# Altium schematic symbol library ESP32_Board.SCHLIB: 23 symbols
Pins are listed as number, name and electrical type; pins without a type are passive.

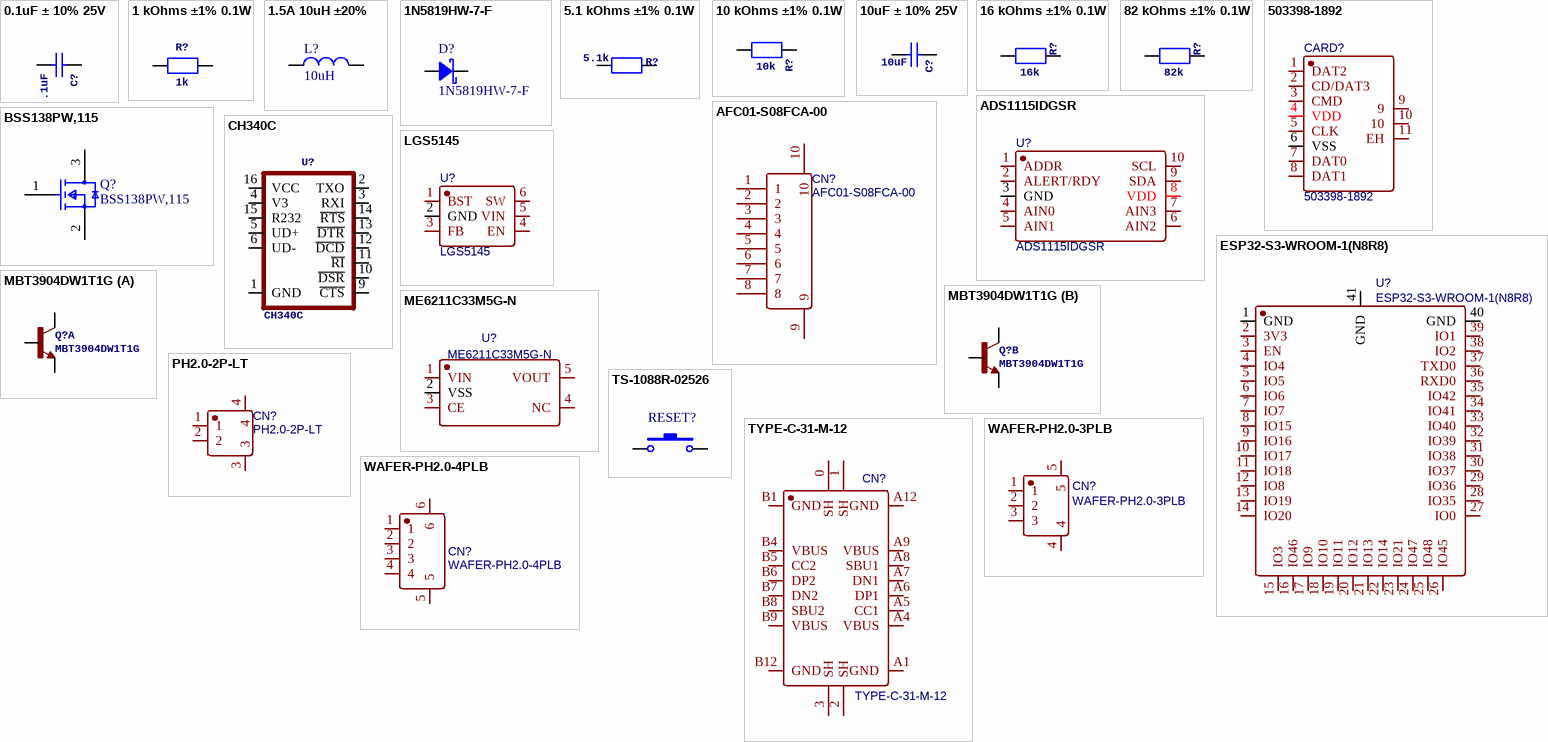
[diagram p0: symbols 0.1uF ± 10% 25V to WAFER-PH2.0-4PLB]

## 0.1uF ± 10% 25V
designator C?, comment 0.1uF
0.1uF ± 10% 25V
footprint C0603 (Footprint not found)
pins: 1, 2

## 1 kOhms ±1% 0.1W
designator R?, comment 1k
1 kOhms ±1% 0.1W
footprint R0603 (Footprint not found)
pins: 1, 2

## 1.5A 10uH ±20%
designator L?, comment 10uH
1.5A 10uH ±20% 2.4A SMD Power Inductors ROHS; Manufacturer Part Number: SWPA4030S100MT; Manufacturer: Sunlord; Supplier: LCSC; Supplier Part Number: C38117
footprint IND-SMD_L4.0-W4.0 (Footprint not found)
footprint INDC1608L (Chip Inductor, Body 1.6x0.8mm, IPC High Density)
footprint 2029 (Chip Inductor, Body 2.0x1.2mm, IPC High Density)
footprint 0603 (Chip Inductor, Body 0.6x0.3mm, IPC High Density)
footprint INDC3216 (Chip Inductor, Body 3.2x1.6mm, IPC High Density)
footprint INDC4532 (Chip Inductor, Body 4.5x3.2mm, IPC High Density)
pins: 1, 2

## 1N5819HW-7-F
designator D?
40V 450mV@1A 1A SOD-123 Schottky Barrier Diodes (SBD) ROHS; Manufacturer Part Number: 1N5819HW-7-F; Manufacturer: Diodes; Supplier: LCSC; Supplier Part Number: C82544
footprint SOD123
pins: A, C

## 5.1 kOhms ±1% 0.1W
designator R?, comment 5.1k
5.1 kOhms ±1% 0.1W
footprint R0603 (Footprint not found)
pins: 1, 2

## 10 kOhms ±1% 0.1W
designator R?, comment 10k
10 kOhms ±1% 0.1W
footprint R0603 (Footprint not found)
pins: 1, 2

## 10uF ± 10% 25V
designator C?, comment 10uF
10uF ± 10% 25V
footprint C1206 (Footprint not found)
pins: 1, 2

## 16 kOhms ±1% 0.1W
designator R?, comment 16k
16 kOhms ±1% 0.1W
footprint R0603 (Footprint not found)
pins: 1, 2

## 82 kOhms ±1% 0.1W
designator R?, comment 82k
82 kOhms ±1% 0.1W
footprint R0603 (Footprint not found)
pins: 1, 2

## 503398-1892
designator CARD?
MicroSD card Connector; Manufacturer: MOLEX; Manufacturer Part Number: 5033981892; Supplier: LCSC; Supplier Part Number: C428492
footprint TF-SMD_503398-1892
pins: 1 DAT2, 2 CD/DAT3, 3 CMD, 4 VDD, 5 CLK, 6 VSS, 7 DAT0, 8 DAT1, 9, 10, 11 EH

## ADS1115IDGSR
designator U?
2V~5.5V 16 860Hz I2C VSSOP-10 Analog To Digital Converters (ADCs) ROHS; Manufacturer: TI; Supplier: LCSC; Manufacturer Part Number: ADS1115IDGSR; Supplier Part Number: C37593
footprint MSOP-10_L3.0-W3.0-P0.50-LS5.0-BL
pins: 1 ADDR, 2 ALERT/RDY, 3 GND, 4 AIN0, 5 AIN1, 6 AIN2, 7 AIN3, 8 VDD, 9 SDA, 10 SCL

## AFC01-S08FCA-00
designator CN?
Clamshell 8P Bottom Contact Surface Mount 0.5mm SMD,P=0.5mm FFC/FPC Connectors ROHS; Manufacturer: JS(钜硕电子); Supplier: LCSC; Supplier Part Number: C262657; Manufacturer Part Number: AFC01-S08FCA-00
footprint FPC-SMD_P0.50-8P_FGS-XJ-H2.0
pins: 1, 2, 3, 4, 5, 6, 7, 8, 9, 10

## BSS138PW,115
designator Q?
Trans MOSFET N Channel 50 Volt 0.22A 3-Pin SOT-23 Tape and Reel; Manufacturer: Nexperia; Manufacturer Part Number: BSS138PW,115; Supplier: LCSC; Supplier Part Number: C193366
footprint Nexperia_SOT323_MFG
pins: 1 G, 2 S, 3 D

## CH340C
designator U?
2Mbps Transceiver USB 2.0 SOP-16 USB ICs ROHS; Manufacturer: WCH; Manufacturer Part Number: CH340C; Supplier: LCSC; Supplier Part Number: C84681
footprint SOP-16_L10.0-W3.9-P1.27-LS6.0-BL (Footprint not found)
pins: 1 GND, 2 TXO, 3 RXI, 4 V3, 5 UD+, 6 UD-, 9 ~{CTS}, 10 ~{DSR}, 11 ~{RI}, 12 ~{DCD}, 13 ~{DTR}, 14 ~{RTS}, 15 R232, 16 VCC

## ESP32-S3-WROOM-1(N8R8)
designator U?
SMD,18x25.5mm WiFi Modules ROHS; Manufacturer: ESPRESSIF(乐鑫); Supplier: LCSC; Supplier Part Number: C2913201; Manufacturer Part Number: ESP32-S3-WROOM-1(N8R8)
footprint WIRELM-SMD_ESP32-S3-WROOM-1
pins: 1 GND, 2 3V3, 3 EN, 4 IO4, 5 IO5, 6 IO6, 7 IO7, 8 IO15, 9 IO16, 10 IO17, 11 IO18, 12 IO8, 13 IO19, 14 IO20, 15 IO3, 16 IO46, 17 IO9, 18 IO10, 19 IO11, 20 IO12, 21 IO13, 22 IO14, 23 IO21, 24 IO47, 25 IO48, 26 IO45, 27 IO0, 28 IO35, 29 IO36, 30 IO37, 31 IO38, 32 IO39, 33 IO40, 34 IO41, 35 IO42, 36 RXD0, 37 TXD0, 38 IO2, 39 IO1, 40 GND, 41 GND

## LGS5145
designator U?
Step-down type Adjustable 1A 0.8V~40V 4.5V~55V SOT-23-6 DC-DC Converters ROHS; Manufacturer: Legend-Si(棱晶半导体); Supplier: LCSC; Supplier Part Number: C5123971; Manufacturer Part Number: LGS5145
footprint SOT-23-6_L2.9-W1.7-P0.95-LS2.8-BL
pins: 1 BST, 2 GND, 3 FB, 4 EN, 5 VIN, 6 SW

## MBT3904DW1T1G
designator Q?
Dual NPN Transistors in Single Package    The MBT3904W1 puts two general purpose 3904 NPN transistors in a single package.   Datasheet   SparkFun Products: SparkFun ESP32 Thing; Manufacturer: onsemi; Manufacturer Part Number: MBT3904DW1T1G; Supplier: LCSC; Supplier Part Number: C110150
footprint SOT-323-6 (Footprint not found)
part A pins: 3 C, 4 E, 5 B
part B pins: 1 E, 2 B, 6 C

## ME6211C33M5G-N
designator U?
Manufacturer: MICRONE(南京微盟); Supplier: LCSC; Manufacturer Part Number: ME6211C33M5G-N; Supplier Part Number: C82942
footprint SOT-23-5_L3.0-W1.7-P0.95-LS2.8-BL
pins: 1 VIN, 2 VSS, 3 CE, 4 NC, 5 VOUT

## PH2.0-2P-LT
designator CN?
1x2P 1 2mm Male pin 2 Brick nogging SMD,P=2mm Wire To Board / Wire To Wire Connector ROHS; Manufacturer: CAX(创都); Supplier: LCSC; Supplier Part Number: C722761; Manufacturer Part Number: PH2.0-2P-LT
footprint CONN-SMD_PH2.0-1X2PW
pins: 1, 2, 3, 4

## TS-1088R-02526
designator RESET?  (value not drawn)
50mA Brick nogging SPST 12V SMD,3x4mm Tactile Switches ROHS; Manufacturer: XUNPU; Manufacturer Part Number: TS-1088R-02526; Supplier: LCSC; Supplier Part Number: TS-1088R-02526
footprint SW-SMD_L3.9-W3.0-P4.45 (Footprint not found)
pins: 1, 2

## TYPE-C-31-M-12
designator CN?
5A 1 16P Female Type-C SMD USB Connectors ROHS; Manufacturer: 韩国韩荣; Supplier: LCSC; Supplier Part Number: C165948; Manufacturer Part Number: TYPE-C-31-M-12
footprint USB-C_SMD-TYPE-C-31-M-12
pins: 0 SH, 1 SH, 2 SH, 3 SH, A1 GND, A4 VBUS, A5 CC1, A6 DP1, A7 DN1, A8 SBU1, A9 VBUS, A12 GND, B1 GND, B4 VBUS, B5 CC2, B6 DP2, B7 DN2, B8 SBU2, B9 VBUS, B12 GND

## WAFER-PH2.0-3PLB
designator CN?
1x3P 1 2mm Male pin 3 -25℃~+85℃ 2A Brick nogging SMD,P=2mm Wire To Board / Wire To Wire Connector ROHS; Manufacturer: XUNPU(讯普); Supplier: LCSC; Supplier Part Number: C3029432; Manufacturer Part Number: WAFER-PH2.0-3PLB
footprint CONN-SMD_3P-P2.00_XUNPU_WAFER-PH2.0-3PLB
pins: 1, 2, 3, 4, 5

## WAFER-PH2.0-4PLB
designator CN?
Manufacturer: XUNPU(讯普); Supplier: LCSC; Supplier Part Number: C3029433; Manufacturer Part Number: WAFER-PH2.0-4PLB
footprint CONN-SMD_4P-P2.00_WAFER-200L-4A
pins: 1, 2, 3, 4, 5, 6